# EAGLE library part RELE-1-SRD (library Circuitos-Creativos-Modulos)
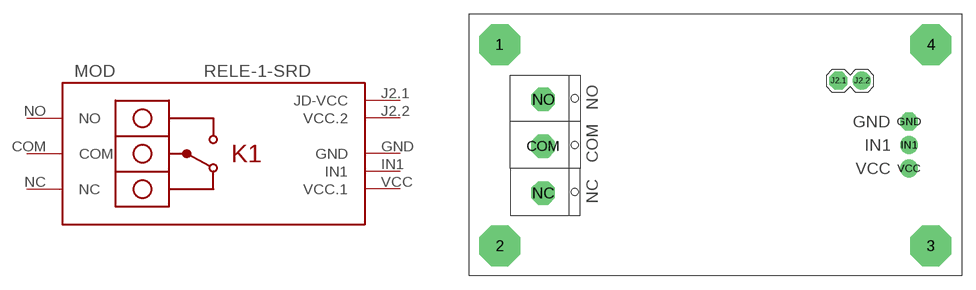
[diagram p3: symbol with the pads of RELE-1-SRD; footprint RELE-1-SRD]

Designator prefix MOD

## RELE-1-SRD  [RELE-1-SRD]
COM  COM
GND  GND  pwr
IN1  IN1
J2.1  JD-VCC
J2.2  VCC.2  pwr
NC  NC
NO  NO
VCC  VCC.1  pwr

## Footprint RELE-1-SRD (pad centres in mm)
drill 3.2 pad 4.445 octagon: 1 -22.718,10.622; 2 -22.718,-11.222; 3 24.018,-11.222; 4 24.018,10.622
drill 1 pad 2.54 octagon: COM -18,-0.42; NC -18,-5.5; NO -18,4.66
drill 1 pad 1.93 octagon: GND 21.65,2.24; J2.1 13.985,6.685
drill 1 pad 1.93: IN1 21.65,-0.3; J2.2 16.525,6.685; VCC 21.65,-2.84